# Altium footprint library PMC-1001S2025.PcbLib: 1 footprints
Each footprint in its own frame and in the unit in brackets; x right, y up, seen from the top. Pads: shape width x height; smd on the part's side, far side on the other; paste and mask are expansions set on the pad; w line width, h text height; cw(c..) or ccw(c..) is an arc to the next point about the centre after c.
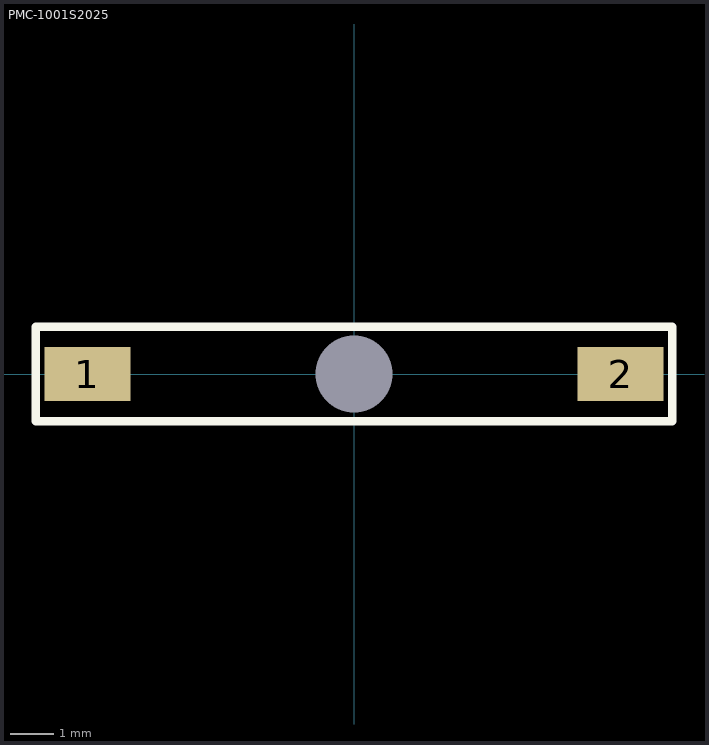
[diagram p0: the footprint, top view; thin cyan lines are the x and y axes]

## PMC-1001S2025 [mm]
height 0.9
pads (3):
  rect 2x1.25 smd: 1(-6.2,0) 2(6.2,0)
  round 0 hole 1.8 square: 1(0,0)
Top Overlay:
  lines w0.2: -7.4,-1.1 7.4,-1.1 7.4,1.1 -7.4,1.1 -7.4,-1.1
Top Assembly:
  lines w0.1: -7.4,-1.1 -7.4,1.1 7.4,1.1 7.4,-1.1 -7.4,-1.1
  text "'.Designator'" at -0.95,-0.35 h0.7